# EAGLE library part PAN1322-SPP (library Panasonic)
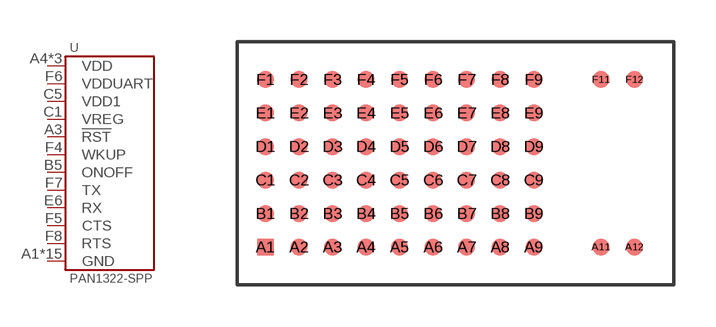
[diagram p0: symbol with the pads of PAN1322-SPP; footprint PAN1322-SPP]

Designator prefix U

## PAN1322-SPP  [PAN1322-SPP]
A1  GND
A3  !RST
A4  VDD
A5  VDD
A6  VDD
A7  GND
A9  GND
A11  GND
A12  GND
B5  ONOFF
C1  VREG
C5  VDD1
C8  GND
C9  GND
D7  GND
D8  GND
E6  RX
E8  GND
E9  GND
F1  GND
F4  WKUP
F5  CTS
F6  VDDUART
F7  TX
F8  RTS
F9  GND
F11  GND
F12  GND

## Footprint PAN1322-SPP (pad centres in mm)
smd 0.6 x 0.6: A1 -6.8,-3; A2 -5.6,-3; A3 -4.4,-3; A4 -3.2,-3; A5 -2,-3; A6 -0.8,-3; A7 0.4,-3; A8 1.6,-3; A9 2.8,-3; A11 5.2,-3; A12 6.4,-3; B1 -6.8,-1.8; B2 -5.6,-1.8; B3 -4.4,-1.8; B4 -3.2,-1.8; B5 -2,-1.8; B6 -0.8,-1.8; B7 0.4,-1.8; B8 1.6,-1.8; B9 2.8,-1.8; C1 -6.8,-0.6; C2 -5.6,-0.6; C3 -4.4,-0.6; C4 -3.2,-0.6; C5 -2,-0.6; C6 -0.8,-0.6; C7 0.4,-0.6; C8 1.6,-0.6; C9 2.8,-0.6; D1 -6.8,0.6; D2 -5.6,0.6; D3 -4.4,0.6; D4 -3.2,0.6; D5 -2,0.6; D6 -0.8,0.6; D7 0.4,0.6; D8 1.6,0.6; D9 2.8,0.6; E1 -6.8,1.8; E2 -5.6,1.8; E3 -4.4,1.8; E4 -3.2,1.8; E5 -2,1.8; E6 -0.8,1.8; E7 0.4,1.8; E8 1.6,1.8; E9 2.8,1.8; F1 -6.8,3; F2 -5.6,3; F3 -4.4,3; F4 -3.2,3; F5 -2,3; F6 -0.8,3; F7 0.4,3; F8 1.6,3; F9 2.8,3; F11 5.2,3; F12 6.4,3